# Altium footprint library m_library.PcbLib: 29 footprints (part 1 of 2)
Each footprint in its own frame and in the unit in brackets; x right, y up, seen from the top. Pads: shape width x height; smd on the part's side, far side on the other; paste and mask are expansions set on the pad; w line width, h text height; cw(c..) or ccw(c..) is an arc to the next point about the centre after c.
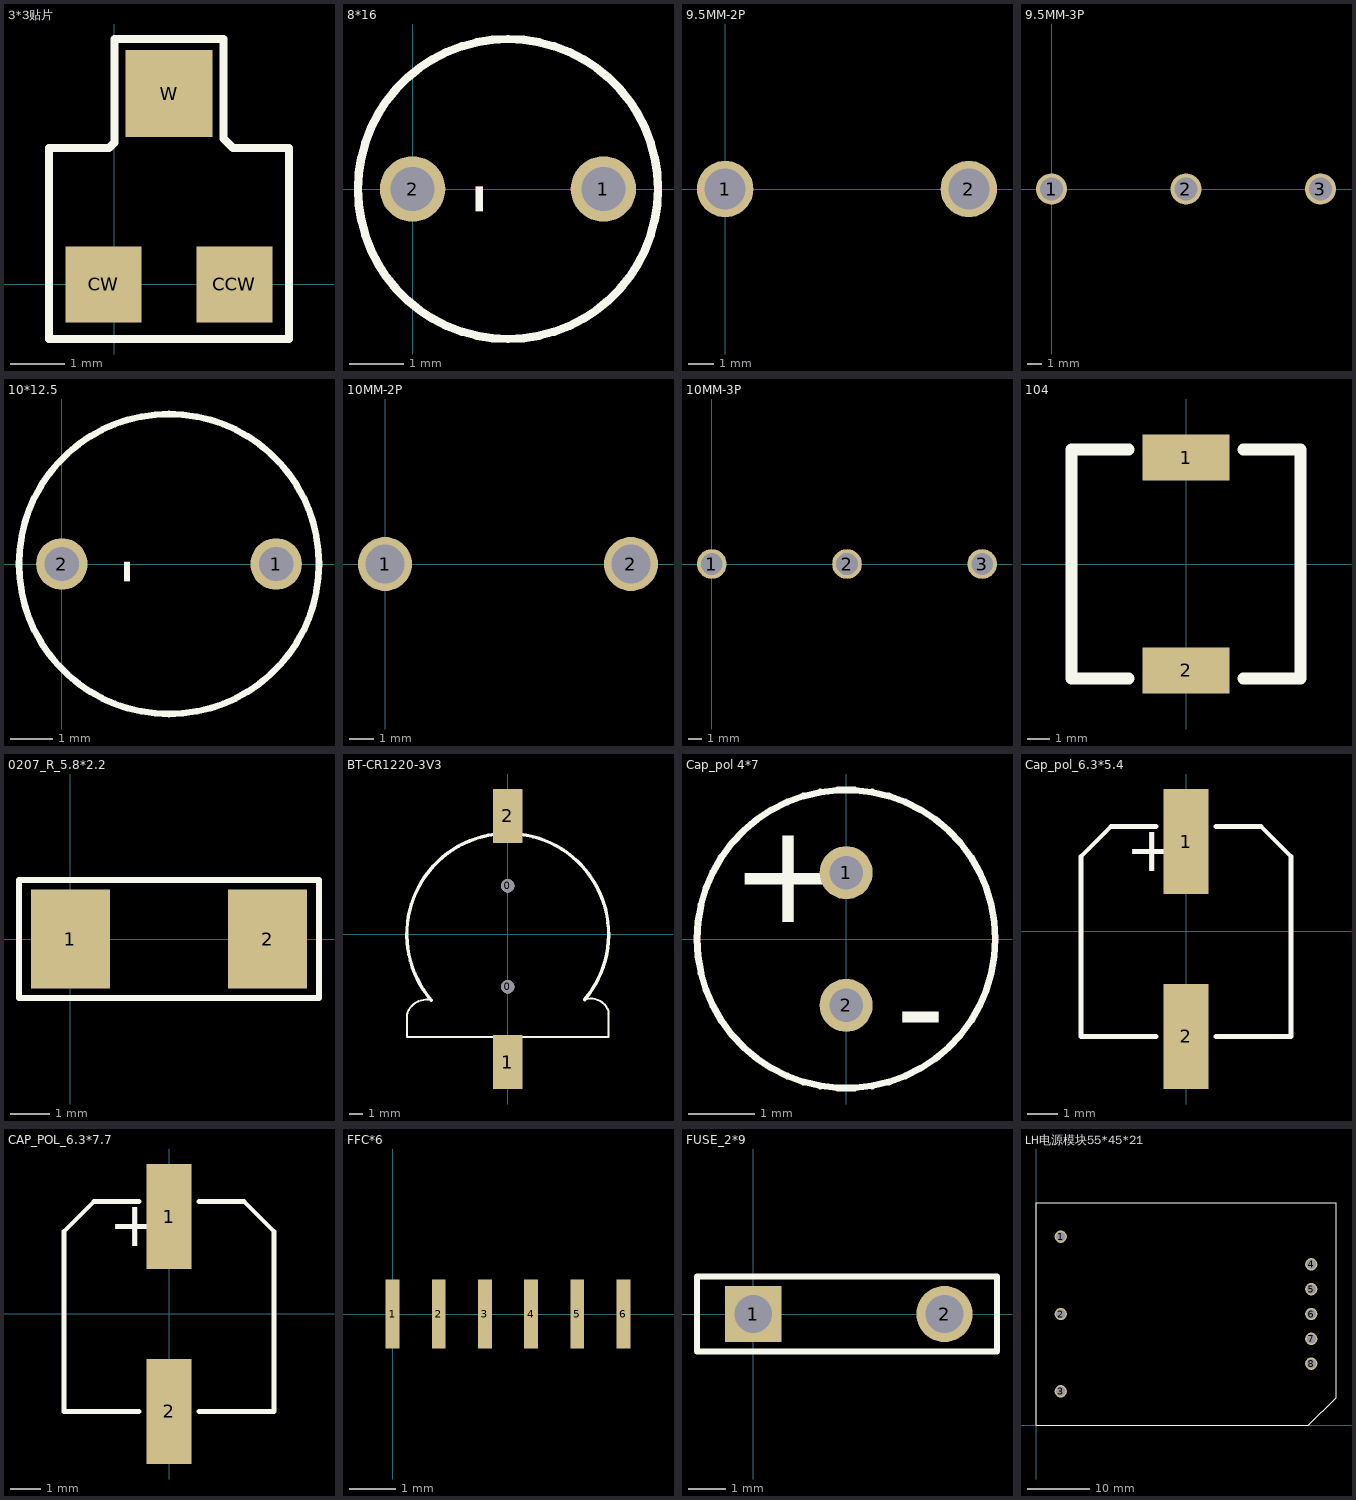
[diagram p0: the footprints below, top view; thin cyan lines are the x and y axes]

## 3*3贴片 [mm]
pads (3):
  rect 1.4x1.4 smd: CCW(2.2,0) CW(-0.2,0)
  rect 1.6x1.6 smd: W(1,3.5)
Top Overlay:
  lines w0.152: -1.2,-1 -1.2,2.5 -0.1,2.5 0,2.6 0,4.5 2,4.5 2,2.674 2.174,2.5 3.2,2.5 3.2,-1 -1.2,-1

## 8*16 [mm] "d0.6-F3.5"
height 16
pads (2):
  round 1.2 hole 0.8: 1(3.5,0) 2(0,0)
Top Overlay:
  circle w0.152: c1.75,0 r2.75
  text "-" at 1.7,-0.5 h1.27

## 9.5MM-2P [mm]
pads (2):
  round 2.2 hole 1.6: 1(0,0) 2(9.5,0)

## 9.5MM-3P [mm]
pads (3):
  round 2.2 hole 1.6: 1(0,0) 2(9.5,0) 3(19,0)

## 10*12.5 [mm] "d0.6-F5"
height 12.5
pads (2):
  round 1.2 hole 0.8: 1(5,0) 2(0,0)
Top Overlay:
  circle w0.152: c2.5,0 r3.5
  text "-" at 2,-0.5 h1.27

## 10MM-2P [mm]
pads (2):
  round 2.2 hole 1.6: 1(0,0) 2(10,0)

## 10MM-3P [mm]
pads (3):
  round 2.2 hole 1.6: 1(0,0) 2(10,0) 3(20,0)

## 104 [mm] "SMDRH104R-151MT"
height 4
pads (2):
  rect 3.8x2 smd: 1(0,4.65) 2(0,-4.65)
Top Overlay:
  lines w0.508: -2.5,-5 -5,-5 -5,5 -2.5,5 ; 2.5,-5 5,-5 5,5 2.5,5

## 0207_R_5.8*2.2 [mm]
height 2.2
pads (2):
  rect 2x2.5 smd: 1(0,0) 2(5,0)
Top Overlay:
  lines w0.152: -1.3,-1.5 6.3,-1.5 6.3,1.5 -1.3,1.5 -1.3,-1.5

## BT-CR1220-3V3 [mm]
height 4
pads (4):
  round 1 hole 1 unplated: 0(0,-3.9) 0(0,3.6)
  rect 2.2x4 smd: 1(0,-9.5) 2(0,8.8)
Top Overlay:
  lines w0.152: -5.685,-4.892 ccw(c-6.038,-6.353) -7.5,-6 -7.5,-7.62 7.5,-7.62 7.5,-5.715 ccw(c6.179,-6.182) 5.712,-4.861
  lines w0.254: -5.685,-4.892 cw(c0,0) 5.712,-4.861

## Cap_pol 4*7 [mm]
height 7
pads (2):
  round 0.8 hole 0.5: 1(0,1) 2(0,-1)
Top Overlay:
  circle w0.1: c0,0 r2.25
  text "+" at -1.75,0.25 h1.52
  text "-" at 0.75,-1.75 h1.52

## Cap_pol_6.3*5.4 [mm]
height 5.5
pads (2):
  rect 1.5x3.5 smd: 1(0,3) 2(0,-3.5)
Top Overlay:
  lines w0.152: -1,-3.5 -3.5,-3.5 -3.5,2.5 -2.5,3.5 -1,3.5 ; 1,-3.5 3.5,-3.5 3.5,2.5 2.5,3.5 1,3.5
  text "+" at -2,2 h1.52

## CAP_POL_6.3*7.7 [mm]
height 7.7
pads (2):
  rect 1.5x3.5 smd: 1(0,3.25) 2(0,-3.25)
Top Overlay:
  lines w0.152: -1,-3.25 -3.5,-3.25 -3.5,2.75 -2.5,3.75 -1,3.75 ; 1,-3.25 3.5,-3.25 3.5,2.75 2.5,3.75 1,3.75
  text "+" at -2,2.25 h1.52

## FFC*6 [mm]
height 6
pads (6):
  rect 0.3x1.5 smd: 1(0,0) 2(1,0) 3(2,0) 4(3,0) 5(4,0) 6(5,0)

## FUSE_2*9 [mm]
height 8.5
pads (2):
  rect 1.5x1.5 hole 1: 1(0,0)
  round 1.5 hole 1: 2(5.1,0)
Top Overlay:
  lines w0.152: -1.5,-1 6.5,-1 6.5,1 -1.5,1 -1.5,-1

## LH电源模块55*45*21 [mm]
height 21
pads (8):
  round 2 hole 1.5: 1(4,30.5) 2(4,18) 3(4,5.5) 4(44.5,26.03) 5(44.5,22.015) 6(44.5,18) 7(44.5,13.985) 8(44.5,9.97)
Top Overlay:
  lines w0.152: 0,0 0,36 48.5,36 48.5,4.5 44,0 0,0